# Altium integrated library DFLS240-7.IntLib: 1 symbol
Pins are listed as number, name and electrical type; pins without a type are passive.

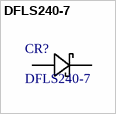
[diagram p0: symbol DFLS240-7]

## DFLS240-7
designator CR?
Description; Manufacturer_Name: Diodes Inc; Copyright: Copyright (C) 2026 Ultra Librarian. All rights reserved.; Manufacturer_Part_Number: DFLS240-7
footprint POWERDI123_DIO
pins: 1, 2